# EAGLE library part RK097-DUAL-W/SWITCH (library halcyonmod_Potentiometers)
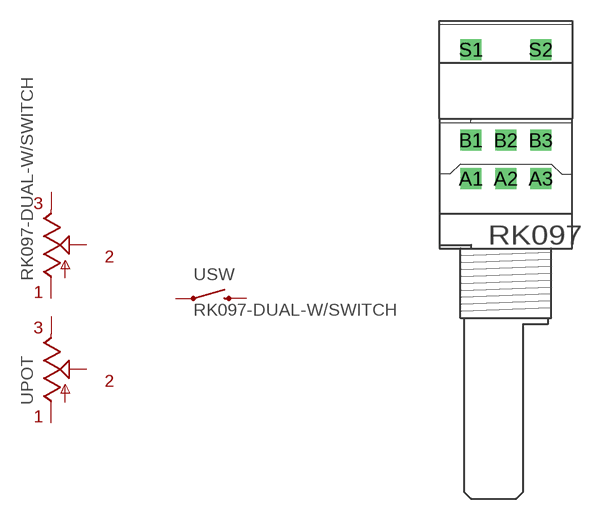
[diagram p5: symbol with the pads of RK097-DUAL-ELEMENT-W/SWITCH; footprint RK097-DUAL-ELEMENT-W/SWITCH]

Designator prefix -; gates POT=POT-DUAL-ELEMENT SW=SWITCH-MOMENTARY-2-1

## RK097-DUAL-W/SWITCH  [RK097-DUAL-ELEMENT-W/SWITCH]
A1  POT:A1  pas
A2  POT:A2  pas
A3  POT:A3  pas
B1  POT:B1  pas
B2  POT:B2  pas
B3  POT:B3  pas
S1  SW:1  pas
S2  SW:2  pas

## Footprint RK097-DUAL-ELEMENT-W/SWITCH (pad centres in mm)
RK097 Dual Element w/ Rotary Switch
drill 1 pad 1.422 square: A1 -2.5,-0.06; A2 0,-0.06; A3 2.5,-0.06; B1 -2.5,2.69; B2 0,2.69; B3 2.5,2.69; S1 -2.5,9.19; S2 2.5,9.19